# Altium schematic symbol library White connector-2P.SchLib: 1 symbol
Pins are listed as number, name and electrical type; pins without a type are passive.

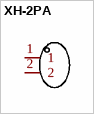
[diagram p0: symbol XH-2PA]

## XH-2PA
designator U?  (value not drawn)
Manufacturer: ZHOURI(洲日); Add into BOM: yes; Symbol: XH-2PA; Device: XH-2PA; LCSC Part Name: XH-2PA; Supplier Part: C5258883; Manufacturer Part: XH-2PA; Supplier Footprint: 插件,P=2.5mm; JLCPCB Part Class: Extended Part; Datasheet: https://atta.szlcsc.com/upload/public/pdf/source/20221111/941C48A64A881023E1ECD9BB647261A0.pdf; Supplier: LCSC; Convert to PCB: yes
footprint CONN-TH_XH-2A
pins: 1, 2